# Altium schematic symbol library TP_Harwin_S2761_46R.SchLib: 1 symbol
Pins are listed as number, name and electrical type; pins without a type are passive.

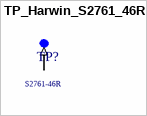
[diagram p0: symbol TP_Harwin_S2761_46R]

## TP_Harwin_S2761_46R
designator TP?  Series: S2761-46R  (hidden comment: TP_Harwin_S2761_46R)
Circuit Board Hardware - PCB SMT Mini Test Terminal, Reel; Supplier 1: Newark; Supplier Part Number 1: 76Y5391
footprint TP_Harwin_S2761_46R
pins: 1 (in)